# EAGLE library part CON_01X30 (library PP_Connectors)
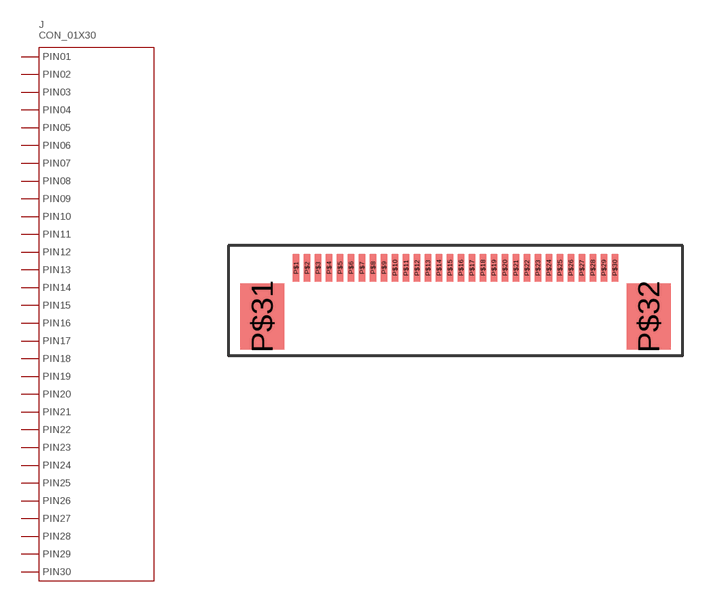
[diagram p12: symbol with the pads of ER-CON30HB-1; footprint ER-CON30HB-1]

Designator prefix J

## CON_01X30_ER-CON30HB-1 (POPULATE: 1)  [ER-CON30HB-1]
P$1  1
P$2  2
P$3  3
P$4  4
P$5  5
P$6  6
P$7  7
P$8  8
P$9  9
P$10  10
P$11  11
P$12  12
P$13  13
P$14  14
P$15  15
P$16  16
P$17  17
P$18  18
P$19  19
P$20  20
P$21  21
P$22  22
P$23  23
P$24  24
P$25  25
P$26  26
P$27  27
P$28  28
P$29  29
P$30  30

## Footprint ER-CON30HB-1 (pad centres in mm)
smd 0.3 x 1.25: P$1 -7.25,0; P$2 -6.75,0; P$3 -6.25,0; P$4 -5.75,0; P$5 -5.25,0; P$6 -4.75,0; P$7 -4.25,0; P$8 -3.75,0; P$9 -3.25,0; P$10 -2.75,0; P$11 -2.25,0; P$12 -1.75,0; P$13 -1.25,0; P$14 -0.75,0; P$15 -0.25,0; P$16 0.25,0; P$17 0.75,0; P$18 1.25,0; P$19 1.75,0; P$20 2.25,0; P$21 2.75,0; P$22 3.25,0; P$23 3.75,0; P$24 4.25,0; P$25 4.75,0; P$26 5.25,0; P$27 5.75,0; P$28 6.25,0; P$29 6.75,0; P$30 7.25,0
smd 2 x 3: P$31 -8.79,-2.225; P$32 8.79,-2.225